# Altium schematic symbol library SN6505.SchLib: 1 symbol
Pins are listed as number, name and electrical type; pins without a type are passive.

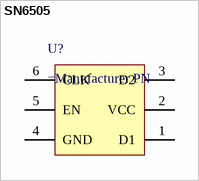
[diagram p0: symbol SN6505]

## SN6505
designator U?
Transformer Driver for isolated power supplies
pins: 1 D1, 2 VCC, 3 D2, 4 GND, 5 EN, 6 CLK